# Altium schematic symbol library Resistors_GP.SchLib: 271 symbols (part 2 of 3)
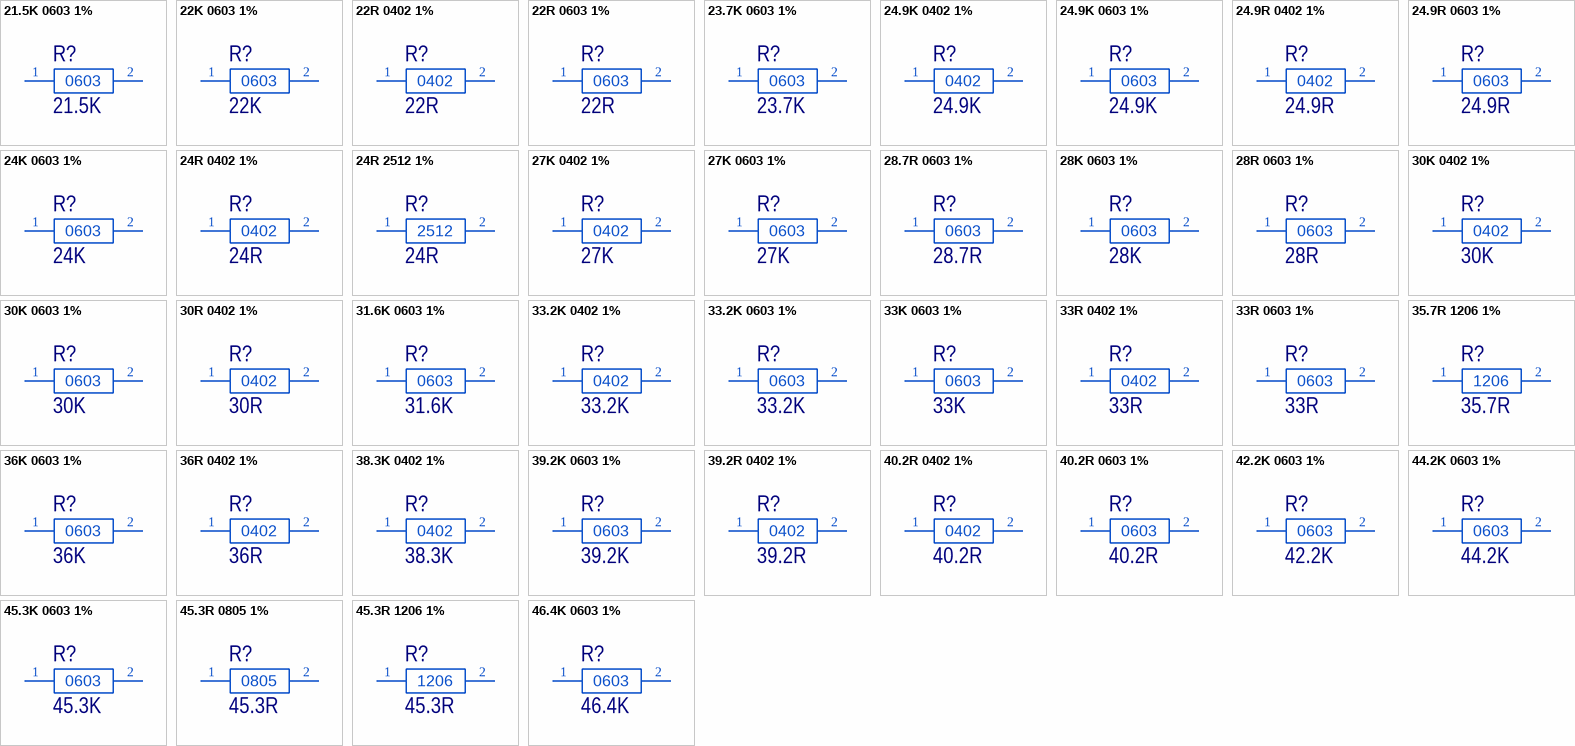
[diagram p7: symbols 21.5K 0603 1% to 46.4K 0603 1%]

## 24R 0402 1%
designator R?, comment 24R
RES 0402 24R 1% 0.0625W 100PPMK; PartNumber: RC0402FR-0724RL; Manufacturer: Yageo; Voltage: 50 V; Temperature Coefficient: ± 100 ppm/°C; Power Dissipation: 62.5 mW; ItemType: Resistor; ItemSubType: 0402; Value: 24R; Tolerance: ± 1 %; Type: Thick Film; Mounting: SMD
footprint R0402GP (SMD040210X05MM)
footprint R0402GP_0.8 (SMD040210X05MM)
pins: 1, 2

## 24R 2512 1%
designator R?, comment 24R
Thick Film Resistor 2512; PartNumber: RC2512FK-0724RL; Manufacturer: Yageo; Tolerance: ± 1 %; Voltage: 200 V; Temperature Coefficient: ± 200 ppm/°C; Marking: 24R0; Power Dissipation: 1 W; ItemSubType: 0603; Value: 24R; Type: Thick Film; ItemType: Resistor; Mounting: SMD
footprint R2512GP_24R (Resistor 2512)
pins: 1, 2
text: 2512

## 27K 0402 1%
designator R?, comment 27K
RES 0402 27K 1% 0.0625W 100PPMK; PartNumber: RC0402FR-0727KL; Manufacturer: Yageo; Voltage: 50 V; Temperature Coefficient: ± 100 ppm/°C; Power Dissipation: 62.5 mW; ItemType: Resistor; ItemSubType: 0402; Value: 27K; Tolerance: ± 1 %; Type: Thick Film; Mounting: SMD
footprint R0402GP (SMD040210X05MM)
footprint R0402GP_0.8 (SMD040210X05MM)
pins: 1, 2

## 27K 0603 1%
designator R?, comment 27K
RES 0603 27K 1% 0.1W 100PPMK; Manufacturer: Yageo; PartNumber: RC0603FR-0727KL; Voltage: 75 V; Temperature Coefficient: ± 100 ppm/°C; Marking: 273; Power Dissipation: 100 mW; ItemType: Resistor; ItemSubType: 0603; Type: Thick Film; Tolerance: ± 1 %; Value: 27K; Mounting: SMD
footprint R0603GP_273 (SMD060316X08MM)
pins: 1, 2

## 28.7R 0603 1%
designator R?, comment 28.7R
RES 0603 28R7 1% 0.1W 100PPMK; PartNumber: RC0603FR-0728R7L; Manufacturer: Yageo; Voltage: 75 V; Temperature Coefficient: ± 100 ppm/°C; Marking: 45X; Power Dissipation: 100 mW; ItemType: Resistor; ItemSubType: 0603; Value: 28.7R; Tolerance: ± 1 %; Type: Thick Film; Mounting: SMD
footprint R0603GP_45X (SMD060316X08MM)
pins: 1, 2

## 28K 0603 1%
designator R?, comment 28K
RES 0603 28K 1% 0.1W 100PPMK; Manufacturer: Yageo; PartNumber: RC0603FR-0728KL; Voltage: 75 V; Temperature Coefficient: ± 100 ppm/°C; Marking: 44С; Power Dissipation: 100 mW; ItemType: Resistor; ItemSubType: 0603; Type: Thick Film; Tolerance: ± 1 %; Value: 28K; Mounting: SMD
footprint R0603GP_44C (SMD060316X08MM)
pins: 1, 2

## 28R 0603 1%
designator R?, comment 28R
RES 0603 28R 1% 0.1W 100PPMK; PartNumber: RC0603FR-0728RL; Manufacturer: Yageo; Voltage: 75 V; Temperature Coefficient: ± 100 ppm/°C; Marking: 44X; Power Dissipation: 100 mW; ItemType: Resistor; ItemSubType: 0603; Value: 28R; Tolerance: ± 1 %; Type: Thick Film; Mounting: SMD
footprint R0603GP_44X (SMD060316X08MM)
pins: 1, 2

## 30K 0402 1%
designator R?, comment 30K
RES 0402 30K 1% 0.0625W 100PPMK; PartNumber: RC0402FR-0730KL; Manufacturer: Yageo; Voltage: 50 V; Temperature Coefficient: ± 100 ppm/°C; Power Dissipation: 62.5 mW; ItemType: Resistor; ItemSubType: 0402; Value: 30K; Tolerance: ± 1 %; Type: Thick Film; Mounting: SMD
footprint R0402GP (SMD040210X05MM)
footprint R0402GP_0.8 (SMD040210X05MM)
pins: 1, 2

## 30K 0603 1%
designator R?, comment 30K
RES 0603 30K 1% 0.1W 100PPMK; Manufacturer: Yageo; PartNumber: RC0603FR-0730KL; Voltage: 75 V; Temperature Coefficient: ± 100 ppm/°C; Marking: 303; Power Dissipation: 100 mW; ItemType: Resistor; ItemSubType: 0603; Type: Thick Film; Tolerance: ± 1 %; Value: 30K; Mounting: SMD
footprint R0603GP_303 (SMD060316X08MM)
pins: 1, 2

## 30R 0402 1%
designator R?, comment 30R
RES 0402 30R 1% 0.0625W 100PPMK; PartNumber: RC0402FR-0730RL; Manufacturer: Yageo; Voltage: 50 V; Temperature Coefficient: ± 100 ppm/°C; Power Dissipation: 62.5 mW; ItemType: Resistor; ItemSubType: 0402; Value: 30R; Tolerance: ± 1 %; Type: Thick Film; Mounting: SMD
footprint R0402GP (SMD040210X05MM)
footprint R0402GP_0.8 (SMD040210X05MM)
pins: 1, 2

## 31.6K 0603 1%
designator R?, comment 31.6K
RES 0603 31K6 1% 0.1W 100PPMK; Manufacturer: Yageo; PartNumber: RC0603FR-0731K6L; Voltage: 75 V; Temperature Coefficient: ± 100 ppm/°C; Marking: 49C; Power Dissipation: 100 mW; ItemType: Resistor; ItemSubType: 0603; Type: Thick Film; Tolerance: ± 1 %; Value: 31.6K; Mounting: SMD
footprint R0603GP_49C (SMD060316X08MM)
pins: 1, 2

## 33.2K 0402 1%
designator R?, comment 33.2K
RES 0402 33K2 1% 0.0625W 100PPMK; PartNumber: RC0402FR-0733K2L; Manufacturer: Yageo; Voltage: 50 V; Temperature Coefficient: ± 100 ppm/°C; Power Dissipation: 62.5 mW; ItemType: Resistor; ItemSubType: 0402; Value: 33.2K; Tolerance: ± 1 %; Type: Thick Film; Mounting: SMD
footprint R0402GP (SMD040210X05MM)
footprint R0402GP_0.8 (SMD040210X05MM)
pins: 1, 2

## 33.2K 0603 1%
designator R?, comment 33.2K
RES 0603 33K2 1% 0.1W 100PPMK; Manufacturer: Yageo; PartNumber: RC0603FR-0733K2L; Voltage: 75 V; Temperature Coefficient: ± 100 ppm/°C; Marking: 51C; Power Dissipation: 100 mW; ItemType: Resistor; ItemSubType: 0603; Type: Thick Film; Tolerance: ± 1 %; Value: 33.2K; Mounting: SMD
footprint R0603GP_51C (SMD060316X08MM)
pins: 1, 2

## 33K 0603 1%
designator R?, comment 33K
RES 0603 33K 1% 0.1W 100PPMK; Manufacturer: Yageo; PartNumber: RC0603FR-0733KL; Voltage: 75 V; Temperature Coefficient: ± 100 ppm/°C; Marking: 333; Power Dissipation: 100 mW; ItemType: Resistor; ItemSubType: 0603; Type: Thick Film; Tolerance: ± 1 %; Value: 33K; Mounting: SMD
footprint R0603GP_333 (SMD060316X08MM)
pins: 1, 2

## 33R 0402 1%
designator R?, comment 33R
RES 0402 33R 1% 0.0625W 100PPMK; PartNumber: RC0402FR-0733RL; Manufacturer: Yageo; Voltage: 50 V; Temperature Coefficient: ± 100 ppm/°C; Power Dissipation: 62.5 mW; ItemType: Resistor; ItemSubType: 0402; Value: 33R; Tolerance: ± 1 %; Type: Thick Film; Mounting: SMD
footprint R0402GP (SMD040210X05MM)
footprint R0402GP_0.8 (SMD040210X05MM)
pins: 1, 2

## 33R 0603 1%
designator R?, comment 33R
RES 0603 33R 1% 0.1W 100PPMK; PartNumber: RC0603FR-0733RL; Manufacturer: Yageo; Voltage: 75 V; Temperature Coefficient: ± 100 ppm/°C; Marking: 330; Power Dissipation: 100 mW; ItemType: Resistor; ItemSubType: 0603; Value: 33R; Tolerance: ± 1 %; Type: Thick Film; Mounting: SMD
footprint R0603GP_330 (SMD060316X08MM)
pins: 1, 2

## 35.7R 1206 1%
designator R?, comment 35.7R
RES 1206 35R7 1% 0.25W 100PPMK; PartNumber: RC1206FR-0735R7L; Manufacturer: Yageo; Voltage: 200 V; Temperature Coefficient: ± 100 ppm/°C; Power Dissipation: 250 mW; ItemType: Resistor; ItemSubType: 1206; Value: 35.7R; Tolerance: ± 1 %; Marking: 35R7; Type: Thick Film; Mounting: SMD
footprint R1206GP_35R7 (Resistor 1206)
pins: 1, 2

## 36K 0603 1%
designator R?, comment 36K
RES 0603 36K 1% 0.1W 100PPMK; PartNumber: RC0603FR-0736KL; Manufacturer: Yageo; Voltage: 75 V; Temperature Coefficient: ± 100 ppm/°C; Marking: 363; Power Dissipation: 100 mW; ItemType: Resistor; ItemSubType: 0603; Value: 36K; Tolerance: ± 1 %; Type: Thick Film; Mounting: SMD
footprint R0603GP_363 (SMD060316X08MM)
pins: 1, 2

## 36R 0402 1%
designator R?, comment 36R
RES 0402 36R 1% 0.0625W 100PPMK; PartNumber: RC0402FR-0736RL; Manufacturer: Yageo; Voltage: 50 V; Temperature Coefficient: ± 100 ppm/°C; Power Dissipation: 62.5 mW; ItemType: Resistor; ItemSubType: 0402; Value: 36R; Tolerance: ± 1 %; Type: Thick Film; Mounting: SMD
footprint R0402GP (SMD040210X05MM)
footprint R0402GP_0.8 (SMD040210X05MM)
pins: 1, 2

## 38.3K 0402 1%
designator R?, comment 38.3K
RES 0402 38K3 1% 0.0625W 100PPMK; PartNumber: RC0402FR-0738K3L; Manufacturer: Yageo; Voltage: 50 V; Temperature Coefficient: ± 100 ppm/°C; Power Dissipation: 62.5 mW; ItemType: Resistor; ItemSubType: 0402; Value: 38.3K; Tolerance: ± 1 %; Type: Thick Film; Mounting: SMD
footprint R0402GP (SMD040210X05MM)
footprint R0402GP_0.8 (SMD040210X05MM)
pins: 1, 2

## 39.2K 0603 1%
designator R?, comment 39.2K
RES 0603 39K2 1% 0.1W 100PPMK; Manufacturer: Yageo; PartNumber: RC0603FR-0739K2L; Voltage: 75 V; Temperature Coefficient: ± 100 ppm/°C; Marking: 58C; Power Dissipation: 100 mW; ItemType: Resistor; ItemSubType: 0603; Type: Thick Film; Tolerance: ± 1 %; Value: 39.2K; Mounting: SMD
footprint R0603GP_58C (SMD060316X08MM)
pins: 1, 2

## 39.2R 0402 1%
designator R?, comment 39.2R
RES 0402 39R2 1% 0.0625W 100PPMK; PartNumber: RC0402FR-0739R2L; Manufacturer: Yageo; Voltage: 50 V; Temperature Coefficient: ± 100 ppm/°C; Power Dissipation: 62.5 mW; ItemType: Resistor; ItemSubType: 0402; Value: 39.2R; Tolerance: ± 1 %; Type: Thick Film; Mounting: SMD
footprint R0402GP (SMD040210X05MM)
footprint R0402GP_0.8 (SMD040210X05MM)
pins: 1, 2

## 40.2R 0402 1%
designator R?, comment 40.2R
RES 0402 40R2 1% 0.0625W 100PPMK; PartNumber: RC0402FR-0740R2L; Manufacturer: Yageo; Voltage: 50 V; Temperature Coefficient: ± 100 ppm/°C; Power Dissipation: 62.5 mW; ItemType: Resistor; ItemSubType: 0402; Value: 40.2R; Tolerance: ± 1 %; Type: Thick Film; Mounting: SMD
footprint R0402GP (SMD040210X05MM)
footprint R0402GP_0.8 (SMD040210X05MM)
pins: 1, 2

## 40.2R 0603 1%
designator R?, comment 40.2R
RES 0603 40R2 1% 0.1W 100PPMK; PartNumber: RC0603FR-0740R2L; Manufacturer: Yageo; Voltage: 75 V; Temperature Coefficient: ± 100 ppm/°C; Marking: 59X; Power Dissipation: 100 mW; ItemType: Resistor; ItemSubType: 0603; Value: 40.2R; Tolerance: ± 1 %; Type: Thick Film; Mounting: SMD
footprint R0603GP_59X (SMD060316X08MM)
pins: 1, 2

## 42.2K 0603 1%
designator R?, comment 42.2K
RES 0603 42K2 1% 0.1W 100PPMK; PartNumber: RC0603FR-0742K2L; Manufacturer: Yageo; Voltage: 75 V; Temperature Coefficient: ± 100 ppm/°C; Marking: 61C; Power Dissipation: 100 mW; ItemType: Resistor; ItemSubType: 0603; Value: 42.2K; Tolerance: ± 1 %; Type: Thick Film; Mounting: SMD
footprint R0603GP_61C (SMD060316X08MM)
pins: 1, 2

## 44.2K 0603 1%
designator R?, comment 44.2K
RES 0603 44K2 1% 0.1W 100PPMK; Manufacturer: Yageo; PartNumber: RC0603FR-0744K2L; Voltage: 75 V; Temperature Coefficient: ± 100 ppm/°C; Marking: 63C; Power Dissipation: 100 mW; ItemType: Resistor; ItemSubType: 0603; Type: Thick Film; Tolerance: ± 1 %; Value: 44.2K; Mounting: SMD
footprint R0603GP_63C (SMD060316X08MM)
pins: 1, 2

## 45.3K 0603 1%
designator R?, comment 45.3K
RES 0603 45K3 1% 0.1W 100PPMK; Manufacturer: Yageo; PartNumber: RC0603FR-0745K3L; Voltage: 75 V; Temperature Coefficient: ± 100 ppm/°C; Marking: 64C; Power Dissipation: 100 mW; ItemType: Resistor; ItemSubType: 0603; Type: Thick Film; Tolerance: ± 1 %; Value: 45.3K; Mounting: SMD
footprint R0603GP_64C (SMD060316X08MM)
pins: 1, 2

## 45.3R 0805 1%
designator R?, comment 45.3R
RES 0805 45R3 1% 0.125W 100PPMK; PartNumber: RC0805FR-0745R3L; Manufacturer: Yageo; Voltage: 150 V; Temperature Coefficient: ± 100 ppm/°C; Power Dissipation: 125 mW; ItemType: Resistor; ItemSubType: 0805; Value: 45.3R; Tolerance: ± 1 %; Marking: 45R3; Type: Thick Film; Mounting: SMD
footprint R0805GP_45R3 (Resistor 0805)
pins: 1, 2

## 45.3R 1206 1%
designator R?, comment 45.3R
RES 1206 45R3 1% 0.25W 100PPMK; PartNumber: RC1206FR-0745R3L; Manufacturer: Yageo; Voltage: 200 V; Temperature Coefficient: ± 100 ppm/°C; Power Dissipation: 250 mW; ItemType: Resistor; ItemSubType: 1206; Value: 45.3R; Tolerance: ± 1 %; Marking: 45R3; Type: Thick Film; Mounting: SMD
footprint R1206GP_45R3 (Resistor 1206)
pins: 1, 2

## 46.4K 0603 1%
designator R?, comment 46.4K
RES 0603 46K4 1% 0.1W 100PPMK; PartNumber: RC0603FR-0746K4L; Manufacturer: Yageo; Voltage: 75 V; Temperature Coefficient: ± 100 ppm/°C; Marking: 65C; Power Dissipation: 100 mW; ItemType: Resistor; ItemSubType: 0603; Value: 46.4K; Tolerance: ± 1 %; Type: Thick Film; Mounting: SMD
footprint R0603GP_65C (SMD060316X08MM)
pins: 1, 2

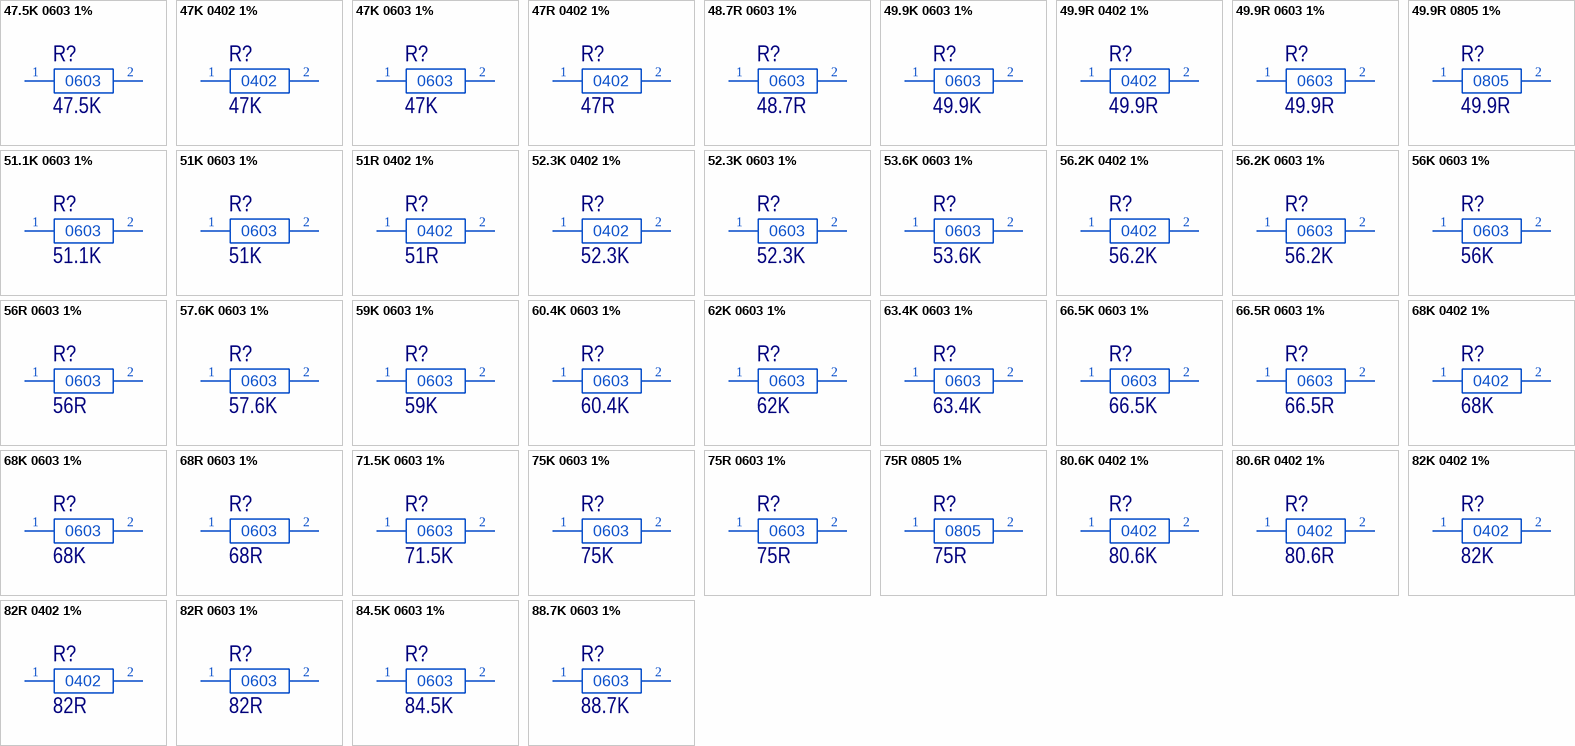
[diagram p4: symbols 47.5K 0603 1% to 88.7K 0603 1%]

## 47.5K 0603 1%
designator R?, comment 47.5K
RES 0603 47K5 1% 0.1W 100PPMK; Manufacturer: Yageo; PartNumber: RC0603FR-0747K5L; Voltage: 75 V; Temperature Coefficient: ± 100 ppm/°C; Marking: 66C; Power Dissipation: 100 mW; ItemType: Resistor; ItemSubType: 0603; Type: Thick Film; Tolerance: ± 1 %; Value: 47.5K; Mounting: SMD
footprint R0603GP_66C (SMD060316X08MM)
pins: 1, 2

## 47K 0402 1%
designator R?, comment 47K
RES 0402 47K 1% 0.0625W 100PPMK; PartNumber: RC0402FR-0747KL; Manufacturer: Yageo; Voltage: 50 V; Temperature Coefficient: ± 100 ppm/°C; Power Dissipation: 62.5 mW; ItemType: Resistor; ItemSubType: 0402; Value: 47K; Tolerance: ± 1 %; Type: Thick Film; Mounting: SMD
footprint R0402GP (SMD040210X05MM)
footprint R0402GP_0.8 (SMD040210X05MM)
pins: 1, 2

## 47K 0603 1%
designator R?, comment 47K
RES 0603 47K 1% 0.1W 100PPMK; Manufacturer: Yageo; PartNumber: RC0603FR-0747KL; Voltage: 75 V; Temperature Coefficient: ± 100 ppm/°C; Marking: 473; Power Dissipation: 100 mW; ItemType: Resistor; ItemSubType: 0603; Type: Thick Film; Tolerance: ± 1 %; Value: 47K; Mounting: SMD
footprint R0603GP_473 (SMD060316X08MM)
pins: 1, 2

## 47R 0402 1%
designator R?, comment 47R
RES 0402 47R 1% 0.0625W 100PPMK; PartNumber: RC0402FR-0747RL; Manufacturer: Yageo; Voltage: 50 V; Temperature Coefficient: ± 100 ppm/°C; Power Dissipation: 62.5 mW; ItemType: Resistor; ItemSubType: 0402; Value: 47R; Tolerance: ± 1 %; Type: Thick Film; Mounting: SMD
footprint R0402GP (SMD040210X05MM)
footprint R0402GP_0.8 (SMD040210X05MM)
pins: 1, 2

## 48.7R 0603 1%
designator R?, comment 48.7R
RES 0603 48R7 1% 0.1W 100PPMK; PartNumber: RC0603FR-0748R7L; Manufacturer: Yageo; Voltage: 75 V; Temperature Coefficient: ± 100 ppm/°C; Marking: 67X; Power Dissipation: 100 mW; ItemType: Resistor; ItemSubType: 0603; Value: 48.7R; Tolerance: ± 1 %; Type: Thick Film; Mounting: SMD
footprint R0603GP_67X (SMD060316X08MM)
pins: 1, 2

## 49.9K 0603 1%
designator R?, comment 49.9K
RES 0603 49K9 1% 0.1W 100PPMK; Manufacturer: Yageo; PartNumber: RC0603FR-0749K9L; Voltage: 75 V; Temperature Coefficient: ± 100 ppm/°C; Marking: 68C; Power Dissipation: 100 mW; ItemType: Resistor; ItemSubType: 0603; Type: Thick Film; Tolerance: ± 1 %; Value: 49.9K; Mounting: SMD
footprint R0603GP_68C (SMD060316X08MM)
pins: 1, 2

## 49.9R 0402 1%
designator R?, comment 49.9R
RES 0402 49R9 1% 0.0625W 100PPMK; PartNumber: RC0402FR-0749R9L; Manufacturer: Yageo; Voltage: 50 V; Temperature Coefficient: ± 100 ppm/°C; Power Dissipation: 62.5 mW; ItemType: Resistor; ItemSubType: 0402; Value: 49.9R; Tolerance: ± 1 %; Type: Thick Film; Mounting: SMD
footprint R0402GP (SMD040210X05MM)
footprint R0402GP_0.8 (SMD040210X05MM)
pins: 1, 2

## 49.9R 0603 1%
designator R?, comment 49.9R
RES 0603 49R9 1% 0.1W 100PPMK; PartNumber: RC0603FR-0749R9L; Manufacturer: Yageo; Voltage: 75 V; Temperature Coefficient: ± 100 ppm/°C; Marking: 68X; Power Dissipation: 100 mW; ItemType: Resistor; ItemSubType: 0603; Value: 49.9R; Tolerance: ± 1 %; Type: Thick Film; Mounting: SMD
footprint R0603GP_68X (SMD060316X08MM)
pins: 1, 2

## 49.9R 0805 1%
designator R?, comment 49.9R
RES 0805 49R9 1% 0.125W 100PPMK; PartNumber: RC0805FR-0749R9L; Manufacturer: Yageo; Voltage: 150 V; Temperature Coefficient: ± 100 ppm/°C; Power Dissipation: 125 mW; ItemType: Resistor; ItemSubType: 0805; Value: 49.9R; Tolerance: ± 1 %; Marking: 49R9; Type: Thick Film; Mounting: SMD
footprint R0805GP_49R9 (Resistor 0805)
pins: 1, 2

## 51.1K 0603 1%
designator R?, comment 51.1K
RES 0603 51K1 1% 0.1W 100PPMK; PartNumber: RC0603FR-0751K1L; Manufacturer: Yageo; Voltage: 75 V; Temperature Coefficient: ± 100 ppm/°C; Marking: 69C; Power Dissipation: 100 mW; ItemType: Resistor; ItemSubType: 0603; Value: 51.1K; Tolerance: ± 1 %; Type: Thick Film; Mounting: SMD
footprint R0603GP_69C (SMD060316X08MM)
pins: 1, 2

## 51K 0603 1%
designator R?, comment 51K
RES 0603 51K 1% 0.1W 100PPMK; PartNumber: RC0603FR-0751KL; Manufacturer: Yageo; Voltage: 75 V; Temperature Coefficient: ± 100 ppm/°C; Marking: 513; Power Dissipation: 100 mW; ItemType: Resistor; ItemSubType: 0603; Value: 51K; Tolerance: ± 1 %; Type: Thick Film; Mounting: SMD
footprint R0603GP_513 (SMD060316X08MM)
pins: 1, 2

## 51R 0402 1%
designator R?, comment 51R
RES 0402 51R 1% 0.0625W 100PPMK; PartNumber: RC0402FR-0751RL; Manufacturer: Yageo; Voltage: 50 V; Temperature Coefficient: ± 100 ppm/°C; Power Dissipation: 62.5 mW; ItemType: Resistor; ItemSubType: 0402; Value: 51R; Tolerance: ± 1 %; Type: Thick Film; Mounting: SMD
footprint R0402GP (SMD040210X05MM)
footprint R0402GP_0.8 (SMD040210X05MM)
pins: 1, 2

## 52.3K 0402 1%
designator R?, comment 52.3K
RES 0402 52K3 1% 0.0625W 100PPMK; PartNumber: RC0402FR-0752K3L; Manufacturer: Yageo; Voltage: 50 V; Temperature Coefficient: ± 100 ppm/°C; Power Dissipation: 62.5 mW; ItemType: Resistor; ItemSubType: 0402; Value: 52.3K; Tolerance: ± 1 %; Type: Thick Film; Mounting: SMD
footprint R0402GP (SMD040210X05MM)
footprint R0402GP_0.8 (SMD040210X05MM)
pins: 1, 2

## 52.3K 0603 1%
designator R?, comment 52.3K
RES 0603 52K3 1% 0.1W 100PPMK; PartNumber: RC0603FR-0752K3L; Manufacturer: Yageo; Voltage: 75 V; Temperature Coefficient: ± 100 ppm/°C; Marking: 70C; Power Dissipation: 100 mW; ItemType: Resistor; ItemSubType: 0603; Value: 52.3K; Tolerance: ± 1 %; Type: Thick Film; Mounting: SMD
footprint R0603GP_70C (SMD060316X08MM)
pins: 1, 2

## 53.6K 0603 1%
designator R?, comment 53.6K
RES 0603 53K6 1% 0.1W 100PPMK; PartNumber: RC0603FR-0753K6L; Manufacturer: Yageo; Voltage: 75 V; Temperature Coefficient: ± 100 ppm/°C; Marking: 71C; Power Dissipation: 100 mW; ItemType: Resistor; ItemSubType: 0603; Value: 53.6K; Tolerance: ± 1 %; Type: Thick Film; Mounting: SMD
footprint R0603GP_71C (SMD060316X08MM)
pins: 1, 2

## 56.2K 0402 1%
designator R?, comment 56.2K
RES 0402 56K2 1% 0.0625W 100PPMK; PartNumber: RC0402FR-0756K2L; Manufacturer: Yageo; Voltage: 50 V; Temperature Coefficient: ± 100 ppm/°C; Power Dissipation: 62.5 mW; ItemType: Resistor; ItemSubType: 0402; Value: 56.2K; Tolerance: ± 1 %; Type: Thick Film; Mounting: SMD
footprint R0402GP (SMD040210X05MM)
footprint R0402GP_0.8 (SMD040210X05MM)
pins: 1, 2

## 56.2K 0603 1%
designator R?, comment 56.2K
RES 0603 56K2 1% 0.1W 100PPMK; Manufacturer: Yageo; PartNumber: RC0603FR-0756K2L; Voltage: 75 V; Temperature Coefficient: ± 100 ppm/°C; Marking: 73C; Power Dissipation: 100 mW; ItemType: Resistor; ItemSubType: 0603; Type: Thick Film; Tolerance: ± 1 %; Value: 56.2K; Mounting: SMD
footprint R0603GP_73C (SMD060316X08MM)
pins: 1, 2

## 56K 0603 1%
designator R?, comment 56K
RES 0603 56K 1% 0.1W 100PPMK; Manufacturer: Yageo; PartNumber: RC0603FR-0756KL; Voltage: 75 V; Temperature Coefficient: ± 100 ppm/°C; Marking: 563; Power Dissipation: 100 mW; ItemType: Resistor; ItemSubType: 0603; Type: Thick Film; Tolerance: ± 1 %; Value: 56K; Mounting: SMD
footprint R0603GP_563 (Footprint not found)
pins: 1, 2

## 56R 0603 1%
designator R?, comment 56R
RES 0603 56R 1% 0.1W 100PPMK; PartNumber: RC0603FR-0756RL; Manufacturer: Yageo; Voltage: 75 V; Temperature Coefficient: ± 100 ppm/°C; Marking: 560; Power Dissipation: 100 mW; ItemType: Resistor; ItemSubType: 0603; Value: 56R; Tolerance: ± 1 %; Type: Thick Film; Mounting: SMD
footprint R0603GP_560 (SMD060316X08MM)
pins: 1, 2

## 57.6K 0603 1%
designator R?, comment 57.6K
RES 0603 57K6 1% 0.1W 100PPMK; Manufacturer: Yageo; PartNumber: RC0603FR-0757K6L; Voltage: 75 V; Temperature Coefficient: ± 100 ppm/°C; Marking: 74C; Power Dissipation: 100 mW; ItemType: Resistor; ItemSubType: 0603; Type: Thick Film; Tolerance: ± 1 %; Value: 57.6K; Mounting: SMD
footprint R0603GP_74C (SMD060316X08MM)
pins: 1, 2

## 59K 0603 1%
designator R?, comment 59K
RES 0603 59K 1% 0.1W 100PPMK; Manufacturer: Yageo; PartNumber: RC0603FR-0759KL; Voltage: 75 V; Temperature Coefficient: ± 100 ppm/°C; Marking: 75C; Power Dissipation: 100 mW; ItemType: Resistor; ItemSubType: 0603; Type: Thick Film; Tolerance: ± 1 %; Value: 59K; Mounting: SMD
footprint R0603GP_75C (SMD060316X08MM)
pins: 1, 2

## 60.4K 0603 1%
designator R?, comment 60.4K
RES 0603 60K4 1% 0.1W 100PPMK; PartNumber: RC0603FR-0760K4L; Manufacturer: Yageo; Voltage: 75 V; Temperature Coefficient: ± 100 ppm/°C; Marking: 76C; Power Dissipation: 100 mW; ItemType: Resistor; ItemSubType: 0603; Value: 60.4K; Tolerance: ± 1 %; Type: Thick Film; Mounting: SMD
footprint R0603GP_76C (SMD060316X08MM)
pins: 1, 2

## 62K 0603 1%
designator R?, comment 62K
RES 0603 62K 1% 0.1W 100PPMK; PartNumber: RC0603FR-0762KL; Manufacturer: Yageo; Voltage: 75 V; Temperature Coefficient: ± 100 ppm/°C; Marking: 623; Power Dissipation: 100 mW; ItemType: Resistor; ItemSubType: 0603; Value: 62K; Tolerance: ± 1 %; Type: Thick Film; Mounting: SMD
footprint R0603GP_623 (SMD060316X08MM)
pins: 1, 2

## 63.4K 0603 1%
designator R?, comment 63.4K
RES 0603 63K4 1% 0.1W 100PPMK; PartNumber: RC0603FR-0763K4L; Manufacturer: Yageo; Voltage: 75 V; Temperature Coefficient: ± 100 ppm/°C; Marking: 78C; Power Dissipation: 100 mW; ItemType: Resistor; ItemSubType: 0603; Value: 63.4K; Tolerance: ± 1 %; Type: Thick Film; Mounting: SMD
footprint R0603GP_78C (SMD060316X08MM)
pins: 1, 2

## 66.5K 0603 1%
designator R?, comment 66.5K
RES 0603 66K5 1% 0.1W 100PPMK; PartNumber: RC0603FR-0766K5L; Manufacturer: Yageo; Voltage: 75 V; Temperature Coefficient: ± 100 ppm/°C; Marking: 80C; Power Dissipation: 100 mW; ItemType: Resistor; ItemSubType: 0603; Value: 66.5K; Tolerance: ± 1 %; Type: Thick Film; Mounting: SMD
footprint R0603GP_80C (SMD060316X08MM)
pins: 1, 2

## 66.5R 0603 1%
designator R?, comment 66.5R
RES 0603 66R5 1% 0.1W 100PPMK; PartNumber: RC0603FR-0766R5L; Manufacturer: Yageo; Voltage: 75 V; Temperature Coefficient: ± 100 ppm/°C; Marking: 80X; Power Dissipation: 100 mW; ItemType: Resistor; ItemSubType: 0603; Value: 66.5R; Tolerance: ± 1 %; Type: Thick Film; Mounting: SMD
footprint R0603GP_80X (SMD060316X08MM)
pins: 1, 2

## 68K 0402 1%
designator R?, comment 68K
RES 0402 68K 1% 0.0625W 100PPMK; PartNumber: RC0402FR-0768KL; Manufacturer: Yageo; Voltage: 50 V; Temperature Coefficient: ± 100 ppm/°C; Power Dissipation: 62.5 mW; ItemType: Resistor; ItemSubType: 0402; Value: 68K; Tolerance: ± 1 %; Type: Thick Film; Mounting: SMD
footprint R0402GP (SMD040210X05MM)
footprint R0402GP_0.8 (SMD040210X05MM)
pins: 1, 2

## 68K 0603 1%
designator R?, comment 68K
RES 0603 68K 1% 0.1W 100PPMK; Manufacturer: Yageo; PartNumber: RC0603FR-0768KL; Voltage: 75 V; Temperature Coefficient: ± 100 ppm/°C; Marking: 683; Power Dissipation: 100 mW; ItemType: Resistor; ItemSubType: 0603; Type: Thick Film; Tolerance: ± 1 %; Value: 68K; Mounting: SMD
footprint R0603GP_683 (SMD060316X08MM)
pins: 1, 2

## 68R 0603 1%
designator R?, comment 68R
RES 0603 68R 1% 0.1W 100PPMK; PartNumber: RC0603FR-0768RL; Manufacturer: Yageo; Voltage: 75 V; Temperature Coefficient: ± 100 ppm/°C; Marking: 680; Power Dissipation: 100 mW; ItemType: Resistor; ItemSubType: 0603; Value: 68R; Tolerance: ± 1 %; Type: Thick Film; Mounting: SMD
footprint R0603GP_680 (SMD060316X08MM)
pins: 1, 2

## 71.5K 0603 1%
designator R?, comment 71.5K
RES 0603 71K5 1% 0.1W 100PPMK; Manufacturer: Yageo; PartNumber: RC0603FR-0771K5L; Voltage: 75 V; Temperature Coefficient: ± 100 ppm/°C; Marking: 83C; Power Dissipation: 100 mW; ItemType: Resistor; ItemSubType: 0603; Type: Thick Film; Tolerance: ± 1 %; Value: 71.5K; Mounting: SMD
footprint R0603GP_83C (SMD060316X08MM)
pins: 1, 2

## 75K 0603 1%
designator R?, comment 75K
RES 0603 75K 1% 0.1W 100PPMK; Manufacturer: Yageo; PartNumber: RC0603FR-0775KL; Voltage: 75 V; Temperature Coefficient: ± 100 ppm/°C; Marking: 85C or 753; Power Dissipation: 100 mW; ItemType: Resistor; ItemSubType: 0603; Type: Thick Film; Tolerance: ± 1 %; Value: 75K; Mounting: SMD
footprint R0603GP_85C (SMD060316X08MM)
pins: 1, 2

## 75R 0603 1%
designator R?, comment 75R
RES 0603 75R 1% 0.1W 100PPMK; PartNumber: RC0603FR-0775RL; Manufacturer: Yageo; Voltage: 75 V; Temperature Coefficient: ± 100 ppm/°C; Marking: 750 or 85X; Power Dissipation: 100 mW; ItemType: Resistor; ItemSubType: 0603; Value: 75R; Tolerance: ± 1 %; Type: Thick Film; Mounting: SMD
footprint R0603GP_85X (SMD060316X08MM)
pins: 1, 2

## 75R 0805 1%
designator R?, comment 75R
RES 0805 75R 1% 0.125W 100PPMK; PartNumber: RC0805FR-0775RL; Manufacturer: Yageo; Voltage: 150 V; Temperature Coefficient: ± 100 ppm/°C; Marking: 75R0; Power Dissipation: 125 mW; ItemType: Resistor; ItemSubType: 0805; Value: 75R; Tolerance: ± 1 %; Type: Thick Film; Mounting: SMD
footprint R0805GP_75R0 (Resistor 0805)
pins: 1, 2

## 80.6K 0402 1%
designator R?, comment 80.6K
RES 0402 80K6 1% 0.0625W 100PPMK; PartNumber: RC0402FR-0780K6L; Manufacturer: Yageo; Voltage: 50 V; Temperature Coefficient: ± 100 ppm/°C; Power Dissipation: 62.5 mW; ItemType: Resistor; ItemSubType: 0402; Value: 80.6K; Tolerance: ± 1 %; Type: Thick Film; Mounting: SMD
footprint R0402GP (SMD040210X05MM)
footprint R0402GP_0.8 (SMD040210X05MM)
pins: 1, 2

## 80.6R 0402 1%
designator R?, comment 80.6R
RES 0402 80R6 1% 0.0625W 100PPMK; PartNumber: RC0402FR-0780R6L; Manufacturer: Yageo; Voltage: 50 V; Temperature Coefficient: ± 100 ppm/°C; Power Dissipation: 62.5 mW; ItemType: Resistor; ItemSubType: 0402; Value: 80.6R; Tolerance: ± 1 %; Type: Thick Film; Mounting: SMD
footprint R0402GP (SMD040210X05MM)
footprint R0402GP_0.8 (SMD040210X05MM)
pins: 1, 2

## 82K 0402 1%
designator R?, comment 82K
RES 0402 82K 1% 0.0625W 100PPMK; PartNumber: RC0402FR-0782KL; Manufacturer: Yageo; Voltage: 50 V; Temperature Coefficient: ± 100 ppm/°C; Power Dissipation: 62.5 mW; ItemType: Resistor; ItemSubType: 0402; Value: 82K; Tolerance: ± 1 %; Type: Thick Film; Mounting: SMD
footprint R0402GP (SMD040210X05MM)
footprint R0402GP_0.8 (SMD040210X05MM)
pins: 1, 2

## 82R 0402 1%
designator R?, comment 82R
RES 0402 82R 1% 0.0625W 100PPMK; PartNumber: RC0402FR-0782RL; Manufacturer: Yageo; Voltage: 50 V; Temperature Coefficient: ± 100 ppm/°C; Power Dissipation: 62.5 mW; ItemType: Resistor; ItemSubType: 0402; Value: 82R; Tolerance: ± 1 %; Type: Thick Film; Mounting: SMD
footprint R0402GP (SMD040210X05MM)
footprint R0402GP_0.8 (SMD040210X05MM)
pins: 1, 2

## 82R 0603 1%
designator R?, comment 82R
RES 0603 82R 1% 0.1W 100PPMK; PartNumber: RC0603FR-0782RL; Manufacturer: Yageo; Voltage: 75 V; Temperature Coefficient: ± 100 ppm/°C; Marking: 820; Power Dissipation: 100 mW; ItemType: Resistor; ItemSubType: 0603; Value: 82R; Tolerance: ± 1 %; Type: Thick Film; Mounting: SMD
footprint R0603GP_820 (SMD060316X08MM)
pins: 1, 2

## 84.5K 0603 1%
designator R?, comment 84.5K
RES 0603 84K5 1% 0.1W 100PPMK; Manufacturer: Yageo; PartNumber: RC0603FR-0784K5L; Voltage: 75 V; Temperature Coefficient: ± 100 ppm/°C; Marking: 90C; Power Dissipation: 100 mW; ItemType: Resistor; ItemSubType: 0603; Type: Thick Film; Tolerance: ± 1 %; Value: 84.5K; Mounting: SMD
footprint R0603GP_90C (SMD060316X08MM)
pins: 1, 2

## 88.7K 0603 1%
designator R?, comment 88.7K
RES 0603 88K7 1% 0.1W 100PPMK; PartNumber: RC0603FR-0788K7L; Manufacturer: Yageo; Voltage: 75 V; Temperature Coefficient: ± 100 ppm/°C; Marking: 92C; Power Dissipation: 100 mW; ItemType: Resistor; ItemSubType: 0603; Tolerance: ± 1 %; Type: Thick Film; Value: 88.7K; Mounting: SMD
footprint R0603GP_92C (SMD060316X08MM)
pins: 1, 2

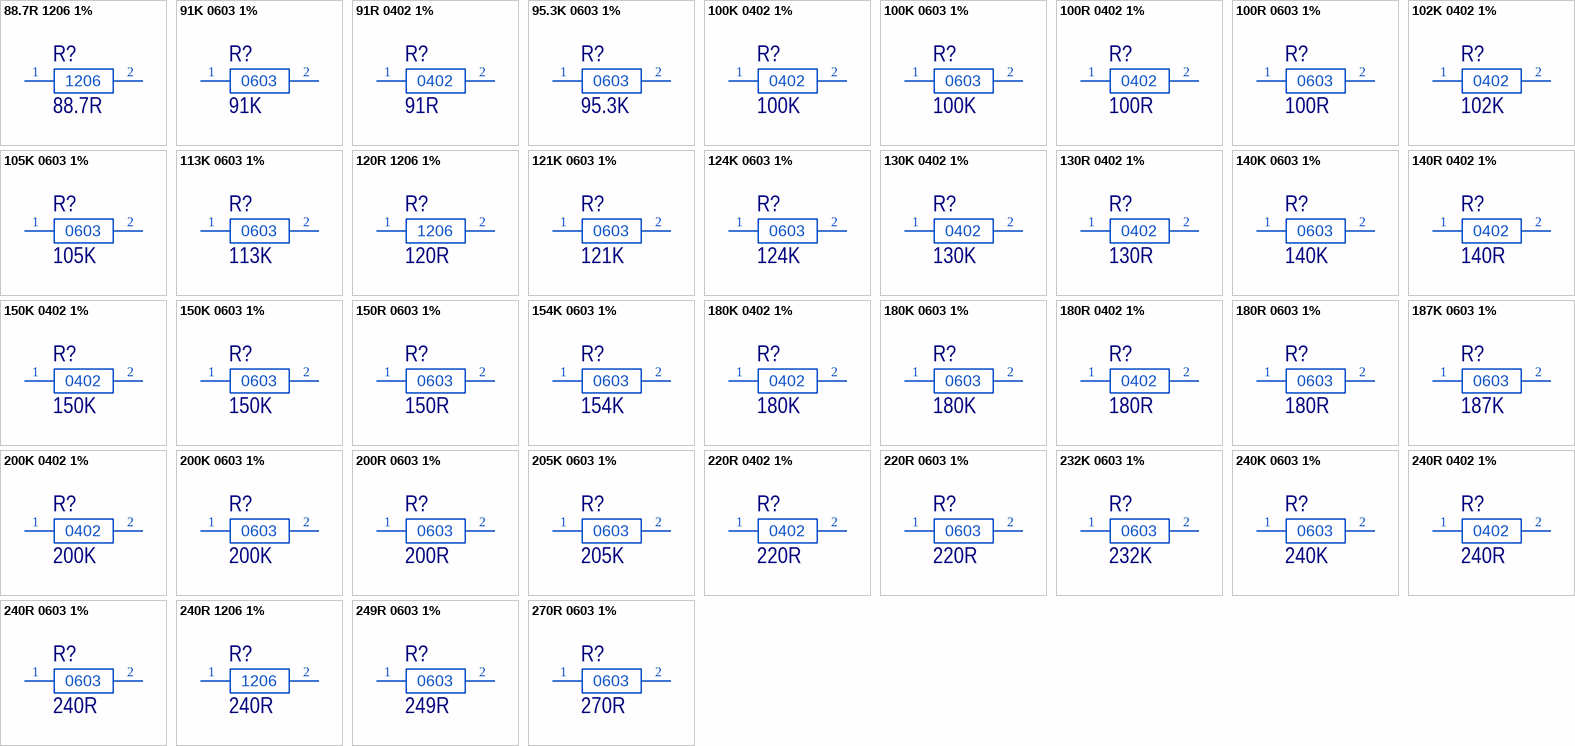
[diagram p5: symbols 88.7R 1206 1% to 270R 0603 1%]

## 88.7R 1206 1%
designator R?, comment 88.7R
RES 1206 88R7 1% 0.25W 100PPMK; PartNumber: RC1206FR-0788R7L; Manufacturer: Yageo; Voltage: 200 V; Temperature Coefficient: ± 100 ppm/°C; Power Dissipation: 250 mW; ItemType: Resistor; ItemSubType: 1206; Value: 88.7R; Tolerance: ± 1 %; Marking: 88R7; Type: Thick Film; Mounting: SMD
footprint R1206GP_88R7 (Resistor 1206)
pins: 1, 2

## 91K 0603 1%
designator R?, comment 91K
RES 0603 91K 1% 0.1W 100PPMK; Manufacturer: Yageo; PartNumber: RC0603FR-0791KL; Voltage: 75 V; Temperature Coefficient: ± 100 ppm/°C; Marking: 913; Power Dissipation: 100 mW; ItemType: Resistor; ItemSubType: 0603; Type: Thick Film; Tolerance: ± 1 %; Value: 91K; Mounting: SMD
footprint R0603GP_913 (SMD060316X08MM)
pins: 1, 2

## 91R 0402 1%
designator R?, comment 91R
RES 0402 91R 1% 0.0625W 100PPMK; PartNumber: RC0402FR-0791RL; Manufacturer: Yageo; Voltage: 50 V; Temperature Coefficient: ± 100 ppm/°C; Power Dissipation: 62.5 mW; ItemType: Resistor; ItemSubType: 0402; Value: 91R; Tolerance: ± 1 %; Type: Thick Film; Mounting: SMD
footprint R0402GP (SMD040210X05MM)
footprint R0402GP_0.8 (SMD040210X05MM)
pins: 1, 2

## 95.3K 0603 1%
designator R?, comment 95.3K
RES 0603 95K3 1% 0.1W 100PPMK; PartNumber: RC0603FR-0795K3L; Manufacturer: Yageo; Voltage: 75 V; Temperature Coefficient: ± 100 ppm/°C; Marking: 95C; Power Dissipation: 100 mW; ItemType: Resistor; ItemSubType: 0603; Value: 95.3K; Tolerance: ± 1 %; Type: Thick Film; Mounting: SMD
footprint R0603GP_95C (SMD060316X08MM)
pins: 1, 2

## 100K 0402 1%
designator R?, comment 100K
RES 0402 100K 1% 0.0625W 100PPMK; PartNumber: RC0402FR-07100KL; Manufacturer: Yageo; Voltage: 50 V; Temperature Coefficient: ± 100 ppm/°C; Power Dissipation: 62.5 mW; ItemType: Resistor; ItemSubType: 0402; Value: 100K; Tolerance: ± 1 %; Type: Thick Film; Mounting: SMD
footprint R0402GP (SMD040210X05MM)
footprint R0402GP_0.8 (SMD040210X05MM)
pins: 1, 2

## 100K 0603 1%
designator R?, comment 100K
RES 0603 100K 1% 0.1W 100PPMK; Manufacturer: Yageo; PartNumber: RC0603FR-07100KL; Voltage: 75 V; Temperature Coefficient: ± 100 ppm/°C; Marking: 01D or 104; Power Dissipation: 100 mW; ItemType: Resistor; ItemSubType: 0603; Type: Thick Film; Tolerance: ± 1 %; Value: 100K; Mounting: SMD
footprint R0603GP_01D (SMD060316X08MM)
pins: 1, 2

## 100R 0402 1%
designator R?, comment 100R
RES 0402 100R 1% 0.0625W 100PPMK; PartNumber: RC0402FR-07100RL; Manufacturer: Yageo; Voltage: 50 V; Temperature Coefficient: ± 100 ppm/°C; Power Dissipation: 62.5 mW; ItemType: Resistor; ItemSubType: 0402; Value: 100R; Tolerance: ± 1 %; Type: Thick Film; Mounting: SMD
footprint R0402GP (SMD040210X05MM)
footprint R0402GP_0.8 (SMD040210X05MM)
pins: 1, 2

## 100R 0603 1%
designator R?, comment 100R
RES 0603 100R 1% 0.1W 100PPMK; PartNumber: RC0603FR-07100RL; Manufacturer: Yageo; Voltage: 75 V; Temperature Coefficient: ± 100 ppm/°C; Marking: 01A or 101; Power Dissipation: 100 mW; ItemType: Resistor; ItemSubType: 0603; Value: 100R; Tolerance: ± 1 %; Type: Thick Film; Mounting: SMD
footprint R0603GP_01A (SMD060316X08MM)
pins: 1, 2

## 102K 0402 1%
designator R?, comment 102K
RES 0402 102K 1% 0.0625W 100PPMK; PartNumber: RC0402FR-07102KL; Manufacturer: Yageo; Voltage: 50 V; Temperature Coefficient: ± 100 ppm/°C; Power Dissipation: 62.5 mW; ItemType: Resistor; ItemSubType: 0402; Value: 102K; Tolerance: ± 1 %; Type: Thick Film; Mounting: SMD
footprint R0402GP (SMD040210X05MM)
footprint R0402GP_0.8 (SMD040210X05MM)
pins: 1, 2

## 105K 0603 1%
designator R?, comment 105K
RES 0603 105K 1% 0.1W 100PPMK; PartNumber: RC0603FR-07105KL; Manufacturer: Yageo; Voltage: 75 V; Temperature Coefficient: ± 100 ppm/°C; Marking: 03D; Power Dissipation: 100 mW; ItemType: Resistor; ItemSubType: 0603; Value: 105K; Tolerance: ± 1 %; Type: Thick Film; Mounting: SMD
footprint R0603GP_03D (SMD060316X08MM)
pins: 1, 2

## 113K 0603 1%
designator R?, comment 113K
RES 0603 113K 1% 0.1W 100PPMK; Manufacturer: Yageo; PartNumber: RC0603FR-07113KL; Voltage: 75 V; Temperature Coefficient: ± 100 ppm/°C; Marking: 06D; Power Dissipation: 100 mW; ItemType: Resistor; ItemSubType: 0603; Type: Thick Film; Tolerance: ± 1 %; Value: 113K; Mounting: SMD
footprint R0603GP_06D (SMD060316X08MM)
pins: 1, 2

## 120R 1206 1%
designator R?, comment 120R
RES 1206 120R 1% 0.25W 100PPMK; PartNumber: RC1206FR-07120RL; Manufacturer: Yageo; Voltage: 200 V; Temperature Coefficient: ± 100 ppm/°C; Power Dissipation: 250 mW; ItemType: Resistor; ItemSubType: 1206; Value: 120R; Tolerance: ± 1 %; Marking: 120R; Type: Thick Film; Mounting: SMD
footprint R1206GP_120R (Resistor 1206)
pins: 1, 2

## 121K 0603 1%
designator R?, comment 121K
RES 0603 121K 1% 0.1W 100PPMK; Manufacturer: Yageo; PartNumber: RC0603FR-07121KL; Voltage: 75 V; Temperature Coefficient: ± 100 ppm/°C; Marking: 09D; Power Dissipation: 100 mW; ItemType: Resistor; ItemSubType: 0603; Type: Thick Film; Tolerance: ± 1 %; Value: 121K; Mounting: SMD
footprint R0603GP_09D (SMD060316X08MM)
pins: 1, 2

## 124K 0603 1%
designator R?, comment 124K
RES 0603 124K 1% 0.1W 100PPMK; Manufacturer: Yageo; PartNumber: RC0603FR-07124KL; Voltage: 75 V; Temperature Coefficient: ± 100 ppm/°C; Marking: 10D; Power Dissipation: 100 mW; ItemType: Resistor; ItemSubType: 0603; Type: Thick Film; Tolerance: ± 1 %; Value: 124K; Mounting: SMD
footprint R0603GP_10D (SMD060316X08MM)
pins: 1, 2

## 130K 0402 1%
designator R?, comment 130K
RES 0402 130K 1% 0.0625W 100PPMK; PartNumber: RC0402FR-07130KL; Manufacturer: Yageo; Voltage: 50 V; Temperature Coefficient: ± 100 ppm/°C; Power Dissipation: 62.5 mW; ItemType: Resistor; ItemSubType: 0402; Value: 130K; Tolerance: ± 1 %; Type: Thick Film; Mounting: SMD
footprint R0402GP (SMD040210X05MM)
footprint R0402GP_0.8 (SMD040210X05MM)
pins: 1, 2

## 130R 0402 1%
designator R?, comment 130R
RES 0402 130R 1% 0.0625W 100PPMK; PartNumber: RC0402FR-07130RL; Manufacturer: Yageo; Voltage: 50 V; Temperature Coefficient: ± 100 ppm/°C; Power Dissipation: 62.5 mW; ItemType: Resistor; ItemSubType: 0402; Value: 130R; Tolerance: ± 1 %; Type: Thick Film; Mounting: SMD
footprint R0402GP (SMD040210X05MM)
footprint R0402GP_0.8 (SMD040210X05MM)
pins: 1, 2

## 140K 0603 1%
designator R?, comment 140K
RES 0603 140K 1% 0.1W 100PPMK; PartNumber: RC0603FR-07140KL; Manufacturer: Yageo; Voltage: 75 V; Temperature Coefficient: ± 100 ppm/°C; Marking: 15D; Power Dissipation: 100 mW; ItemType: Resistor; ItemSubType: 0603; Value: 140K; Tolerance: ± 1 %; Type: Thick Film; Mounting: SMD
footprint R0603GP_15D (SMD060316X08MM)
pins: 1, 2

## 140R 0402 1%
designator R?, comment 140R
RES 0402 140R 1% 0.0625W 100PPMK; PartNumber: RC0402FR-07140RL; Manufacturer: Yageo; Voltage: 50 V; Temperature Coefficient: ± 100 ppm/°C; Power Dissipation: 62.5 mW; ItemType: Resistor; ItemSubType: 0402; Value: 140R; Tolerance: ± 1 %; Type: Thick Film; Mounting: SMD
footprint R0402GP (SMD040210X05MM)
footprint R0402GP_0.8 (SMD040210X05MM)
pins: 1, 2

## 150K 0402 1%
designator R?, comment 150K
RES 0402 150K 1% 0.0625W 100PPMK; PartNumber: RC0402FR-07150KL; Manufacturer: Yageo; Voltage: 50 V; Temperature Coefficient: ± 100 ppm/°C; Power Dissipation: 62.5 mW; ItemType: Resistor; ItemSubType: 0402; Value: 150K; Tolerance: ± 1 %; Type: Thick Film; Mounting: SMD
footprint R0402GP (SMD040210X05MM)
footprint R0402GP_0.8 (SMD040210X05MM)
pins: 1, 2

## 150K 0603 1%
designator R?, comment 150K
RES 0603 150K 1% 0.1W 100PPMK; PartNumber: RC0603FR-07150KL; Manufacturer: Yageo; Voltage: 75 V; Temperature Coefficient: ± 100 ppm/°C; Marking: 18D or 154; Power Dissipation: 100 mW; ItemType: Resistor; ItemSubType: 0603; Value: 150K; Tolerance: ± 1 %; Type: Thick Film; Mounting: SMD
footprint R0603GP_18D (SMD060316X08MM)
pins: 1, 2

## 150R 0603 1%
designator R?, comment 150R
RES 0603 150R 1% 0.1W 100PPMK; PartNumber: RC0603FR-07150RL; Manufacturer: Yageo; Voltage: 75 V; Temperature Coefficient: ± 100 ppm/°C; Marking: 151 or 18A; Power Dissipation: 100 mW; ItemType: Resistor; ItemSubType: 0603; Value: 150R; Tolerance: ± 1 %; Type: Thick Film; Mounting: SMD
footprint R0603GP_18A (SMD060316X08MM)
pins: 1, 2

## 154K 0603 1%
designator R?, comment 154K
RES 0603 154K 1% 0.1W 100PPMK; PartNumber: RC0603FR-07154KL; Manufacturer: Yageo; Voltage: 75 V; Temperature Coefficient: ± 100 ppm/°C; Marking: 19D; Power Dissipation: 100 mW; ItemType: Resistor; ItemSubType: 0603; Value: 154K; Tolerance: ± 1 %; Type: Thick Film; Mounting: SMD
footprint R0603GP_19D (SMD060316X08MM)
pins: 1, 2

## 180K 0402 1%
designator R?, comment 180K
RES 0402 180K 1% 0.0625W 100PPMK; PartNumber: RC0402FR-07180KL; Manufacturer: Yageo; Voltage: 50 V; Temperature Coefficient: ± 100 ppm/°C; Power Dissipation: 62.5 mW; ItemType: Resistor; ItemSubType: 0402; Value: 180K; Tolerance: ± 1 %; Type: Thick Film; Mounting: SMD
footprint R0402GP (SMD040210X05MM)
footprint R0402GP_0.8 (SMD040210X05MM)
pins: 1, 2

## 180K 0603 1%
designator R?, comment 180K
RES 0603 180K 1% 0.1W 100PPMK; Manufacturer: Yageo; PartNumber: RC0603FR-07180KL; Voltage: 75 V; Temperature Coefficient: ± 100 ppm/°C; Marking: 184; Power Dissipation: 100 mW; ItemType: Resistor; ItemSubType: 0603; Type: Thick Film; Tolerance: ± 1 %; Value: 180K; Mounting: SMD
footprint R0603GP_184 (SMD060316X08MM)
pins: 1, 2

## 180R 0402 1%
designator R?, comment 180R
RES 0402 180R 1% 0.0625W 100PPMK; PartNumber: RC0402FR-07180RL; Manufacturer: Yageo; Voltage: 50 V; Temperature Coefficient: ± 100 ppm/°C; Power Dissipation: 62.5 mW; ItemType: Resistor; ItemSubType: 0402; Value: 180R; Tolerance: ± 1 %; Type: Thick Film; Mounting: SMD
footprint R0402GP (SMD040210X05MM)
footprint R0402GP_0.8 (SMD040210X05MM)
pins: 1, 2

## 180R 0603 1%
designator R?, comment 180R
RES 0603 180R 1% 0.1W 100PPMK; PartNumber: RC0603FR-07180RL; Manufacturer: Yageo; Voltage: 75 V; Temperature Coefficient: ± 100 ppm/°C; Marking: 181; Power Dissipation: 100 mW; ItemType: Resistor; ItemSubType: 0603; Value: 180R; Tolerance: ± 1 %; Type: Thick Film; Mounting: SMD
footprint R0603GP_181 (SMD060316X08MM)
pins: 1, 2

## 187K 0603 1%
designator R?, comment 187K
RES 0603 187K 1% 0.1W 100PPMK; Manufacturer: Yageo; PartNumber: RC0603FR-07187KL; Voltage: 75 V; Temperature Coefficient: ± 100 ppm/°C; Marking: 27D; Power Dissipation: 100 mW; ItemType: Resistor; ItemSubType: 0603; Type: Thick Film; Tolerance: ± 1 %; Value: 187K; Mounting: SMD
footprint R0603GP_27D (SMD060316X08MM)
pins: 1, 2

## 200K 0402 1%
designator R?, comment 200K
RES 0402 200K 1% 0.0625W 100PPMK; PartNumber: RC0402FR-07200KL; Manufacturer: Yageo; Voltage: 50 V; Temperature Coefficient: ± 100 ppm/°C; Power Dissipation: 62.5 mW; ItemType: Resistor; ItemSubType: 0402; Value: 200K; Tolerance: ± 1 %; Type: Thick Film; Mounting: SMD
footprint R0402GP (SMD040210X05MM)
footprint R0402GP_0.8 (SMD040210X05MM)
pins: 1, 2

## 200K 0603 1%
designator R?, comment 200K
RES 0603 200K 1% 0.1W 100PPMK; Manufacturer: Yageo; PartNumber: RC0603FR-07200KL; Voltage: 75 V; Temperature Coefficient: ± 100 ppm/°C; Marking: 30D; Power Dissipation: 100 mW; ItemType: Resistor; ItemSubType: 0603; Type: Thick Film; Tolerance: ± 1 %; Value: 200K; Mounting: SMD
footprint R0603GP_30D (SMD060316X08MM)
pins: 1, 2

## 200R 0603 1%
designator R?, comment 200R
RES 0603 200R 1% 0.1W 100PPMK; PartNumber: RC0603FR-07200RL; Manufacturer: Yageo; Voltage: 75 V; Temperature Coefficient: ± 100 ppm/°C; Marking: 30A or 201; Power Dissipation: 100 mW; ItemType: Resistor; ItemSubType: 0603; Value: 200R; Tolerance: ± 1 %; Type: Thick Film; Mounting: SMD
footprint R0603GP_30A (SMD060316X08MM)
pins: 1, 2

## 205K 0603 1%
designator R?, comment 205K
RES 0603 205K 1% 0.1W 100PPMK; PartNumber: RC0603FR-07205KL; Manufacturer: Yageo; Voltage: 75 V; Temperature Coefficient: ± 100 ppm/°C; Marking: 31D; Power Dissipation: 100 mW; ItemType: Resistor; ItemSubType: 0603; Value: 205K; Tolerance: ± 1 %; Type: Thick Film; Mounting: SMD
footprint R0603GP_31D (SMD060316X08MM)
pins: 1, 2

## 220R 0402 1%
designator R?, comment 220R
RES 0402 220R 1% 0.0625W 100PPMK; PartNumber: RC0402FR-07220RL; Manufacturer: Yageo; Voltage: 50 V; Temperature Coefficient: ± 100 ppm/°C; Power Dissipation: 62.5 mW; ItemType: Resistor; ItemSubType: 0402; Value: 220R; Tolerance: ± 1 %; Type: Thick Film; Mounting: SMD
footprint R0402GP (SMD040210X05MM)
footprint R0402GP_0.8 (SMD040210X05MM)
pins: 1, 2

## 220R 0603 1%
designator R?, comment 220R
RES 0603 220R 1% 0.1W 100PPMK; PartNumber: RC0603FR-07220RL; Manufacturer: Yageo; Voltage: 75 V; Temperature Coefficient: ± 100 ppm/°C; Marking: 221; Power Dissipation: 100 mW; ItemType: Resistor; ItemSubType: 0603; Value: 220R; Tolerance: ± 1 %; Type: Thick Film; Mounting: SMD
footprint R0603GP_221 (SMD060316X08MM)
pins: 1, 2

## 232K 0603 1%
designator R?, comment 232K
RES 0603 232K 1% 0.1W 100PPMK; PartNumber: RC0603FR-07232KL; Manufacturer: Yageo; Voltage: 75 V; Temperature Coefficient: ± 100 ppm/°C; Marking: 36D; Power Dissipation: 100 mW; ItemType: Resistor; ItemSubType: 0603; Value: 232K; Tolerance: ± 1 %; Type: Thick Film; Mounting: SMD
footprint R0603GP_36D (SMD060316X08MM)
pins: 1, 2

## 240K 0603 1%
designator R?, comment 240K
RES 0603 240K 1% 0.1W 100PPMK; Manufacturer: Yageo; PartNumber: RC0603FR-07240KL; Voltage: 75 V; Temperature Coefficient: ± 100 ppm/°C; Marking: 244; Power Dissipation: 100 mW; ItemType: Resistor; ItemSubType: 0603; Type: Thick Film; Tolerance: ± 1 %; Value: 240K; Mounting: SMD
footprint R0603GP_244 (SMD060316X08MM)
pins: 1, 2

## 240R 0402 1%
designator R?, comment 240R
RES 0402 240R 1% 0.0625W 100PPMK; PartNumber: RC0402FR-07240RL; Manufacturer: Yageo; Voltage: 50 V; Temperature Coefficient: ± 100 ppm/°C; Power Dissipation: 62.5 mW; ItemType: Resistor; ItemSubType: 0402; Value: 240R; Tolerance: ± 1 %; Type: Thick Film; Mounting: SMD
footprint R0402GP (SMD040210X05MM)
footprint R0402GP_0.8 (SMD040210X05MM)
pins: 1, 2

## 240R 0603 1%
designator R?, comment 240R
RES 0603 240R 1% 0.1W 100PPMK; PartNumber: RC0603FR-07240RL; Manufacturer: Yageo; Voltage: 75 V; Temperature Coefficient: ± 100 ppm/°C; Marking: 241; Power Dissipation: 100 mW; ItemType: Resistor; ItemSubType: 0603; Value: 240R; Tolerance: ± 1 %; Type: Thick Film; Mounting: SMD
footprint R0603GP_241 (SMD060316X08MM)
pins: 1, 2

## 240R 1206 1%
designator R?, comment 240R
RES 1206 240R 1% 0.25W 100PPMK; PartNumber: RC1206FR-07240RL; Manufacturer: Yageo; Voltage: 200 V; Temperature Coefficient: ± 100 ppm/°C; Power Dissipation: 250 mW; ItemType: Resistor; ItemSubType: 1206; Value: 240R; Tolerance: ± 1 %; Marking: 240R; Type: Thick Film; Mounting: SMD
footprint R1206GP_240R (Resistor 1206)
pins: 1, 2

## 249R 0603 1%
designator R?, comment 249R
RES 0603 249R 1% 0.1W 100PPMK; PartNumber: RC0603FR-07249RL; Manufacturer: Yageo; Voltage: 75 V; Temperature Coefficient: ± 200 ppm/°C; Marking: 39A; Power Dissipation: 100 mW; ItemType: Resistor; ItemSubType: 0603; Value: 249R; Tolerance: ± 1 %; Type: Thick Film; Mounting: SMD
footprint R0603GP_39A (SMD060316X08MM)
pins: 1, 2

## 270R 0603 1%
designator R?, comment 270R
RES 0603 270R 1% 0.1W 100PPMK; PartNumber: RC0603FR-07270RL; Manufacturer: Yageo; Voltage: 75 V; Temperature Coefficient: ± 100 ppm/°C; Marking: 271; Power Dissipation: 100 mW; ItemType: Resistor; ItemSubType: 0603; Value: 270R; Tolerance: ± 1 %; Type: Thick Film; Mounting: SMD
footprint R0603GP_271 (SMD060316X08MM)
pins: 1, 2

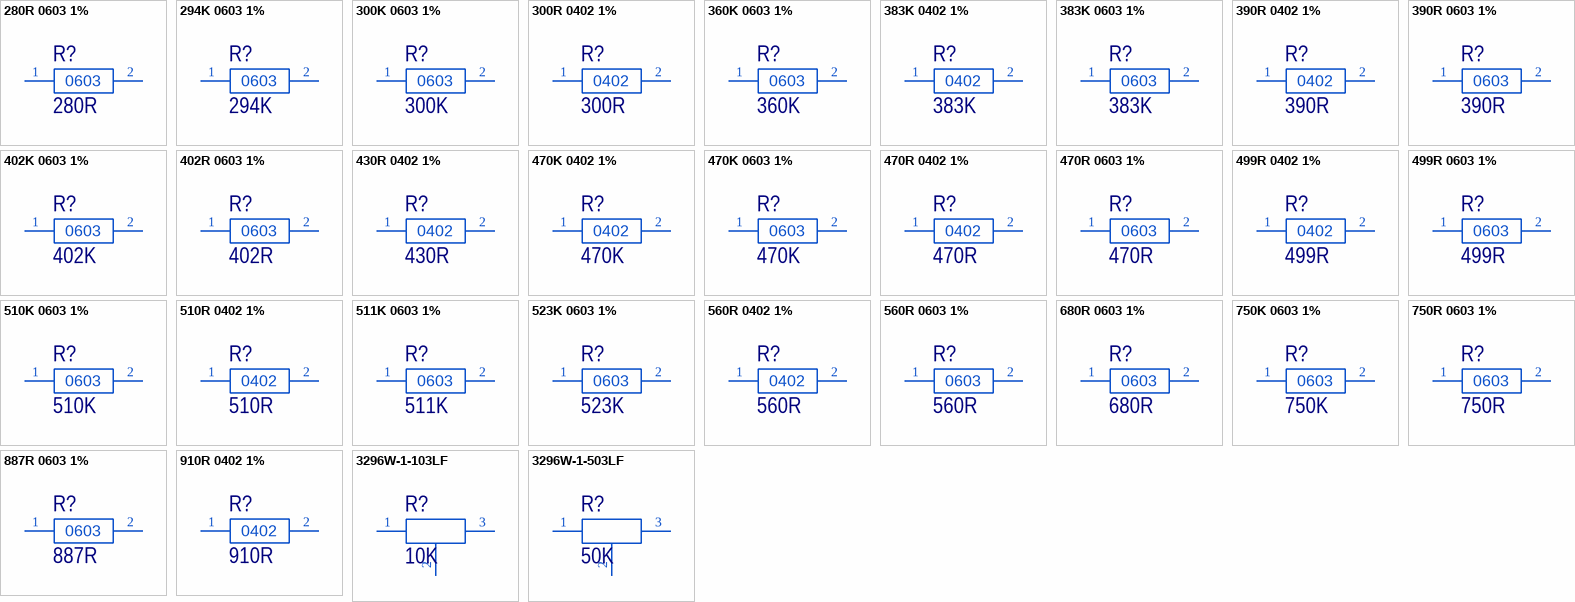
[diagram p6: symbols 280R 0603 1% to 3296W-1-503LF]

## 280R 0603 1%
designator R?, comment 280R
RES 0603 280R 1% 0.1W 100PPMK; PartNumber: RC0603FR-07280RL; Manufacturer: Yageo; Voltage: 75 V; Temperature Coefficient: ± 200 ppm/°C; Marking: 44A; Power Dissipation: 100 mW; ItemType: Resistor; ItemSubType: 0603; Value: 280R; Tolerance: ± 1 %; Type: Thick Film; Mounting: SMD
footprint R0603GP_44A (SMD060316X08MM)
pins: 1, 2

## 294K 0603 1%
designator R?, comment 294K
RES 0603 294K 1% 0.1W 100PPMK; Manufacturer: Yageo; PartNumber: RC0603FR-07294KL; Voltage: 75 V; Temperature Coefficient: ± 100 ppm/°C; Marking: 46D; Power Dissipation: 100 mW; ItemType: Resistor; ItemSubType: 0603; Type: Thick Film; Tolerance: ± 1 %; Value: 294K; Mounting: SMD
footprint R0603GP_46D (SMD060316X08MM)
pins: 1, 2

## 300K 0603 1%
designator R?, comment 300K
RES 0603 300K 1% 0.1W 100PPMK; PartNumber: RC0603FR-07300KL; Manufacturer: Yageo; Voltage: 75 V; Temperature Coefficient: ± 100 ppm/°C; Marking: 304; Power Dissipation: 100 mW; ItemType: Resistor; ItemSubType: 0603; Value: 300K; Tolerance: ± 1 %; Type: Thick Film; Mounting: SMD
footprint R0603GP_304 (SMD060316X08MM)
pins: 1, 2

## 300R 0402 1%
designator R?, comment 300R
RES 0402 300R 1% 0.0625W 100PPMK; PartNumber: RC0402FR-07300RL; Manufacturer: Yageo; Voltage: 50 V; Temperature Coefficient: ± 100 ppm/°C; Power Dissipation: 62.5 mW; ItemType: Resistor; ItemSubType: 0402; Value: 300R; Tolerance: ± 1 %; Type: Thick Film; Mounting: SMD
footprint R0402GP (SMD040210X05MM)
footprint R0402GP_0.8 (SMD040210X05MM)
pins: 1, 2

## 360K 0603 1%
designator R?, comment 360K
RES 0603 360K 1% 0.1W 100PPMK; PartNumber: RC0603FR-07360KL; Manufacturer: Yageo; Voltage: 75 V; Temperature Coefficient: ± 100 ppm/°C; Marking: 364; Power Dissipation: 100 mW; ItemType: Resistor; ItemSubType: 0603; Value: 360K; Tolerance: ± 1 %; Type: Thick Film; Mounting: SMD
footprint R0603GP_364 (SMD060316X08MM)
pins: 1, 2

## 383K 0402 1%
designator R?, comment 383K
RES 0402 383K 1% 0.0625W 100PPMK; PartNumber: RC0402FR-07383KL; Manufacturer: Yageo; Voltage: 50 V; Temperature Coefficient: ± 100 ppm/°C; Power Dissipation: 62.5 mW; ItemType: Resistor; ItemSubType: 0402; Value: 383K; Tolerance: ± 1 %; Type: Thick Film; Mounting: SMD
footprint R0402GP (SMD040210X05MM)
footprint R0402GP_0.8 (SMD040210X05MM)
pins: 1, 2

## 383K 0603 1%
designator R?, comment 383K
RES 0603 383K 1% 0.1W 100PPMK; PartNumber: RC0603FR-07383KL; Manufacturer: Yageo; Voltage: 75 V; Temperature Coefficient: ± 100 ppm/°C; Marking: 57D; Power Dissipation: 100 mW; ItemType: Resistor; ItemSubType: 0603; Value: 383K; Tolerance: ± 1 %; Type: Thick Film; Mounting: SMD
footprint R0603GP_57D (SMD060316X08MM)
pins: 1, 2

## 390R 0402 1%
designator R?, comment 390R
RES 0402 390R 1% 0.0625W 100PPMK; PartNumber: RC0402FR-07390RL; Manufacturer: Yageo; Voltage: 50 V; Temperature Coefficient: ± 100 ppm/°C; Power Dissipation: 62.5 mW; ItemType: Resistor; ItemSubType: 0402; Value: 390R; Tolerance: ± 1 %; Type: Thick Film; Mounting: SMD
footprint R0402GP (SMD040210X05MM)
footprint R0402GP_0.8 (SMD040210X05MM)
pins: 1, 2

## 390R 0603 1%
designator R?, comment 390R
RES 0603 390R 1% 0.1W 100PPMK; PartNumber: RC0603FR-07390RL; Manufacturer: Yageo; Voltage: 75 V; Temperature Coefficient: ± 100 ppm/°C; Marking: 391; Power Dissipation: 100 mW; ItemType: Resistor; ItemSubType: 0603; Value: 390R; Tolerance: ± 1 %; Type: Thick Film; Mounting: SMD
footprint R0603GP_391 (SMD060316X08MM)
pins: 1, 2

## 402K 0603 1%
designator R?, comment 402K
RES 0603 402K 1% 0.1W 100PPMK; PartNumber: RC0603FR-07402KL; Manufacturer: Yageo; Voltage: 75 V; Temperature Coefficient: ± 100 ppm/°C; Marking: 59D; Power Dissipation: 100 mW; ItemType: Resistor; ItemSubType: 0603; Value: 402K; Tolerance: ± 1 %; Type: Thick Film; Mounting: SMD
footprint R0603GP_57D (SMD060316X08MM)
pins: 1, 2

## 402R 0603 1%
designator R?, comment 402R
RES 0603 402R 1% 0.1W 100PPMK; PartNumber: RC0603FR-07402RL; Manufacturer: Yageo; Voltage: 75 V; Temperature Coefficient: ± 100 ppm/°C; Marking: 59A; Power Dissipation: 100 mW; ItemType: Resistor; ItemSubType: 0603; Value: 402R; Tolerance: ± 1 %; Type: Thick Film; Mounting: SMD
footprint R0603GP_59A (SMD060316X08MM)
pins: 1, 2

## 430R 0402 1%
designator R?, comment 430R
RES 0402 430R 1% 0.0625W 100PPMK; PartNumber: RC0402FR-07430RL; Manufacturer: Yageo; Voltage: 50 V; Temperature Coefficient: ± 100 ppm/°C; Power Dissipation: 62.5 mW; ItemType: Resistor; ItemSubType: 0402; Value: 430R; Tolerance: ± 1 %; Type: Thick Film; Mounting: SMD
footprint R0402GP (SMD040210X05MM)
footprint R0402GP_0.8 (SMD040210X05MM)
pins: 1, 2

## 470K 0402 1%
designator R?, comment 470K
RES 0402 470K 1% 0.0625W 100PPMK; PartNumber: RC0402FR-07470KL; Manufacturer: Yageo; Voltage: 50 V; Temperature Coefficient: ± 100 ppm/°C; Power Dissipation: 62.5 mW; ItemType: Resistor; ItemSubType: 0402; Value: 470K; Tolerance: ± 1 %; Type: Thick Film; Mounting: SMD
footprint R0402GP (SMD040210X05MM)
footprint R0402GP_0.8 (SMD040210X05MM)
pins: 1, 2

## 470K 0603 1%
designator R?, comment 470K
RES 0603 470K 1% 0.1W 100PPMK; PartNumber: RC0603FR-07470KL; Manufacturer: Yageo; Voltage: 75 V; Temperature Coefficient: ± 100 ppm/°C; Marking: 474; Power Dissipation: 100 mW; ItemType: Resistor; ItemSubType: 0603; Value: 470K; Tolerance: ± 1 %; Type: Thick Film; Mounting: SMD
footprint R0603GP_474 (SMD060316X08MM)
pins: 1, 2

## 470R 0402 1%
designator R?, comment 470R
RES 0402 470R 1% 0.0625W 100PPMK; PartNumber: RC0402FR-07470RL; Manufacturer: Yageo; Voltage: 50 V; Temperature Coefficient: ± 100 ppm/°C; Power Dissipation: 62.5 mW; ItemType: Resistor; ItemSubType: 0402; Value: 470R; Tolerance: ± 1 %; Type: Thick Film; Mounting: SMD
footprint R0402GP (SMD040210X05MM)
footprint R0402GP_0.8 (SMD040210X05MM)
pins: 1, 2

## 470R 0603 1%
designator R?, comment 470R
RES 0603 470R 1% 0.1W 100PPMK; PartNumber: RC0603FR-07470RL; Manufacturer: Yageo; Voltage: 75 V; Temperature Coefficient: ± 100 ppm/°C; Marking: 471; Power Dissipation: 100 mW; ItemType: Resistor; ItemSubType: 0603; Value: 470R; Tolerance: ± 1 %; Type: Thick Film; Mounting: SMD
footprint R0603GP_471 (SMD060316X08MM)
pins: 1, 2

## 499R 0402 1%
designator R?, comment 499R
RES 0402 499R 1% 0.0625W 100PPMK; PartNumber: RC0402FR-07499RL; Manufacturer: Yageo; Voltage: 50 V; Temperature Coefficient: ± 100 ppm/°C; Power Dissipation: 62.5 mW; ItemType: Resistor; ItemSubType: 0402; Value: 499R; Tolerance: ± 1 %; Type: Thick Film; Mounting: SMD
footprint R0402GP (SMD040210X05MM)
footprint R0402GP_0.8 (SMD040210X05MM)
pins: 1, 2

## 499R 0603 1%
designator R?, comment 499R
RES 0603 499R 1% 0.1W 100PPMK; PartNumber: RC0603FR-07499RL; Manufacturer: Yageo; Voltage: 75 V; Temperature Coefficient: ± 100 ppm/°C; Marking: 68A; Power Dissipation: 100 mW; ItemType: Resistor; ItemSubType: 0603; Value: 499R; Tolerance: ± 1 %; Type: Thick Film; Mounting: SMD
footprint R0603GP_68A (SMD060316X08MM)
pins: 1, 2

## 510K 0603 1%
designator R?, comment 510K
RES 0603 510K 1% 0.1W 100PPMK; PartNumber: RC0603FR-07510KL; Manufacturer: Yageo; Voltage: 75 V; Temperature Coefficient: ± 100 ppm/°C; Marking: 514; Power Dissipation: 100 mW; ItemType: Resistor; ItemSubType: 0603; Value: 510K; Tolerance: ± 1 %; Type: Thick Film; Mounting: SMD
footprint R0603GP_514 (SMD060316X08MM)
pins: 1, 2

## 510R 0402 1%
designator R?, comment 510R
RES 0402 510R 1% 0.0625W 100PPMK; PartNumber: RC0402FR-07510RL; Manufacturer: Yageo; Voltage: 50 V; Temperature Coefficient: ± 100 ppm/°C; Power Dissipation: 62.5 mW; ItemType: Resistor; ItemSubType: 0402; Value: 510R; Tolerance: ± 1 %; Type: Thick Film; Mounting: SMD
footprint R0402GP (SMD040210X05MM)
footprint R0402GP_0.8 (SMD040210X05MM)
pins: 1, 2